# Altium footprint library VREG_TLV76701DGNR.PcbLib: 1 footprints
Each footprint in its own frame and in the unit in brackets; x right, y up, seen from the top. Pads: shape width x height; smd on the part's side, far side on the other; paste and mask are expansions set on the pad; w line width, h text height; cw(c..) or ccw(c..) is an arc to the next point about the centre after c.
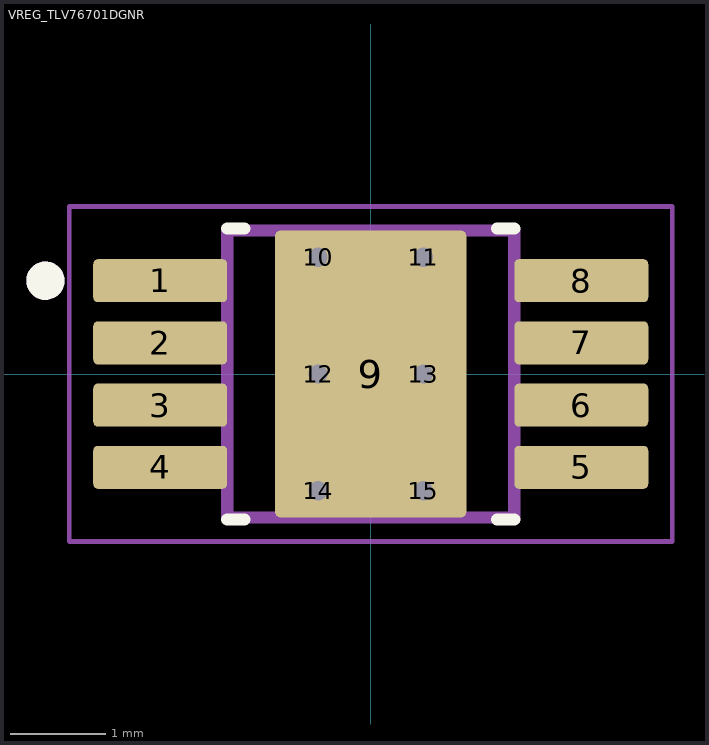
[diagram p0: the footprint, top view; thin cyan lines are the x and y axes]

## VREG_TLV76701DGNR [mm]
pads (15):
  rrect22% 1.4x0.45 smd mask+0: 1(-2.2,0.975) 2(-2.2,0.325) 3(-2.2,-0.325) 4(-2.2,-0.975) 5(2.2,-0.975) 6(2.2,-0.325) 7(2.2,0.325) 8(2.2,0.975)
  rrect6% 2x3 smd paste-3 mask+0: 9(0,0)
  round 0.4 hole 0.2 mask+0: 10(-0.55,1.22) 11(0.55,1.22) 12(-0.55,0) 13(0.55,0) 14(-0.55,-1.22) 15(0.55,-1.22)
Top Overlay:
  circle w0.2: c-3.4,0.975 r0.1
  lines w0.127: -1.5,-1.52 -1.32,-1.52 ; -1.5,1.52 -1.32,1.52 ; 1.32,-1.52 1.5,-1.52 ; 1.32,1.52 1.5,1.52
Top Paste:
  region: 0.743,0.944 0.745,0.944 0.748,0.943 0.75,0.943 0.753,0.942 0.755,0.941 0.758,0.94 0.76,0.938 0.762,0.937 0.764,0.935 0.766,0.934 0.768,0.932 0.77,0.93 0.772,0.928 0.774,0.926 0.775,0.924 0.777,0.922 0.778,0.92 0.78,0.918 0.781,0.915 0.782,0.913 0.783,0.91 0.783,0.908 0.784,0.905 0.784,0.903 0.785,0.9 0.785,0.898 0.785,0.895 0.785,-0.895 0.785,-0.898 0.785,-0.9 0.784,-0.903 0.784,-0.905 0.783,-0.908 0.783,-0.91 0.782,-0.913 0.781,-0.915 0.78,-0.918 0.778,-0.92 0.777,-0.922 0.775,-0.924 0.774,-0.926 0.772,-0.928 0.77,-0.93 0.768,-0.932 0.766,-0.934 0.764,-0.935 0.762,-0.937 0.76,-0.938 0.758,-0.94 0.755,-0.941 0.753,-0.942 0.75,-0.943 0.748,-0.943 0.745,-0.944 0.743,-0.944 0.74,-0.945 -0.74,-0.945 -0.743,-0.944 -0.745,-0.944 -0.748,-0.943 -0.75,-0.943 -0.753,-0.942 -0.755,-0.941 -0.758,-0.94 -0.76,-0.938 -0.762,-0.937 -0.764,-0.935 -0.766,-0.934 -0.768,-0.932 -0.77,-0.93 -0.772,-0.928 -0.774,-0.926 -0.775,-0.924 -0.777,-0.922 -0.778,-0.92 -0.78,-0.918 -0.781,-0.915 -0.782,-0.913 -0.783,-0.91 -0.783,-0.908 -0.784,-0.905 -0.784,-0.903 -0.785,-0.9 -0.785,-0.898 -0.785,-0.895 -0.785,0.895 -0.785,0.898 -0.785,0.9 -0.784,0.903 -0.784,0.905 -0.783,0.908 -0.783,0.91 -0.782,0.913 -0.781,0.915 -0.78,0.918 -0.778,0.92 -0.777,0.922 -0.775,0.924 -0.774,0.926 -0.772,0.928 -0.77,0.93 -0.768,0.932 -0.766,0.934 -0.764,0.935 -0.762,0.937 -0.76,0.938 -0.758,0.94 -0.755,0.941 -0.753,0.942 -0.75,0.943 -0.748,0.943 -0.745,0.944 -0.743,0.944 -0.74,0.945 0.74,0.945
Top Solder:
  drawing of 9 lines, arcs and shapes, not listed
Assembly Top:
  circle w0.2: c-3.4,0.975 r0.1
  lines w0.127: -1.5,-1.5 -1.5,1.5 1.5,1.5 1.5,-1.5 -1.5,-1.5
  text "on 0.125mm thickness" at -3.25,-7.126 h0.81
  text "Stencil is designed based" at -3.25,-5.5 h0.81
Courtyard Top:
  lines w0.05: -3.15,-1.75 3.15,-1.75 3.15,1.75 -3.15,1.75 -3.15,-1.75
3D body "step_temp.STEP": height 1.1, standoff 0, extent -2.45,-1.5 2.45,1.5